# Altium footprint library SparkFun-Connectors.PCBLIB: 344 footprints (part 18 of 22)
Each footprint in its own frame and in the unit in brackets; x right, y up, seen from the top. Pads: shape width x height; smd on the part's side, far side on the other; paste and mask are expansions set on the pad; w line width, h text height; cw(c..) or ccw(c..) is an arc to the next point about the centre after c.
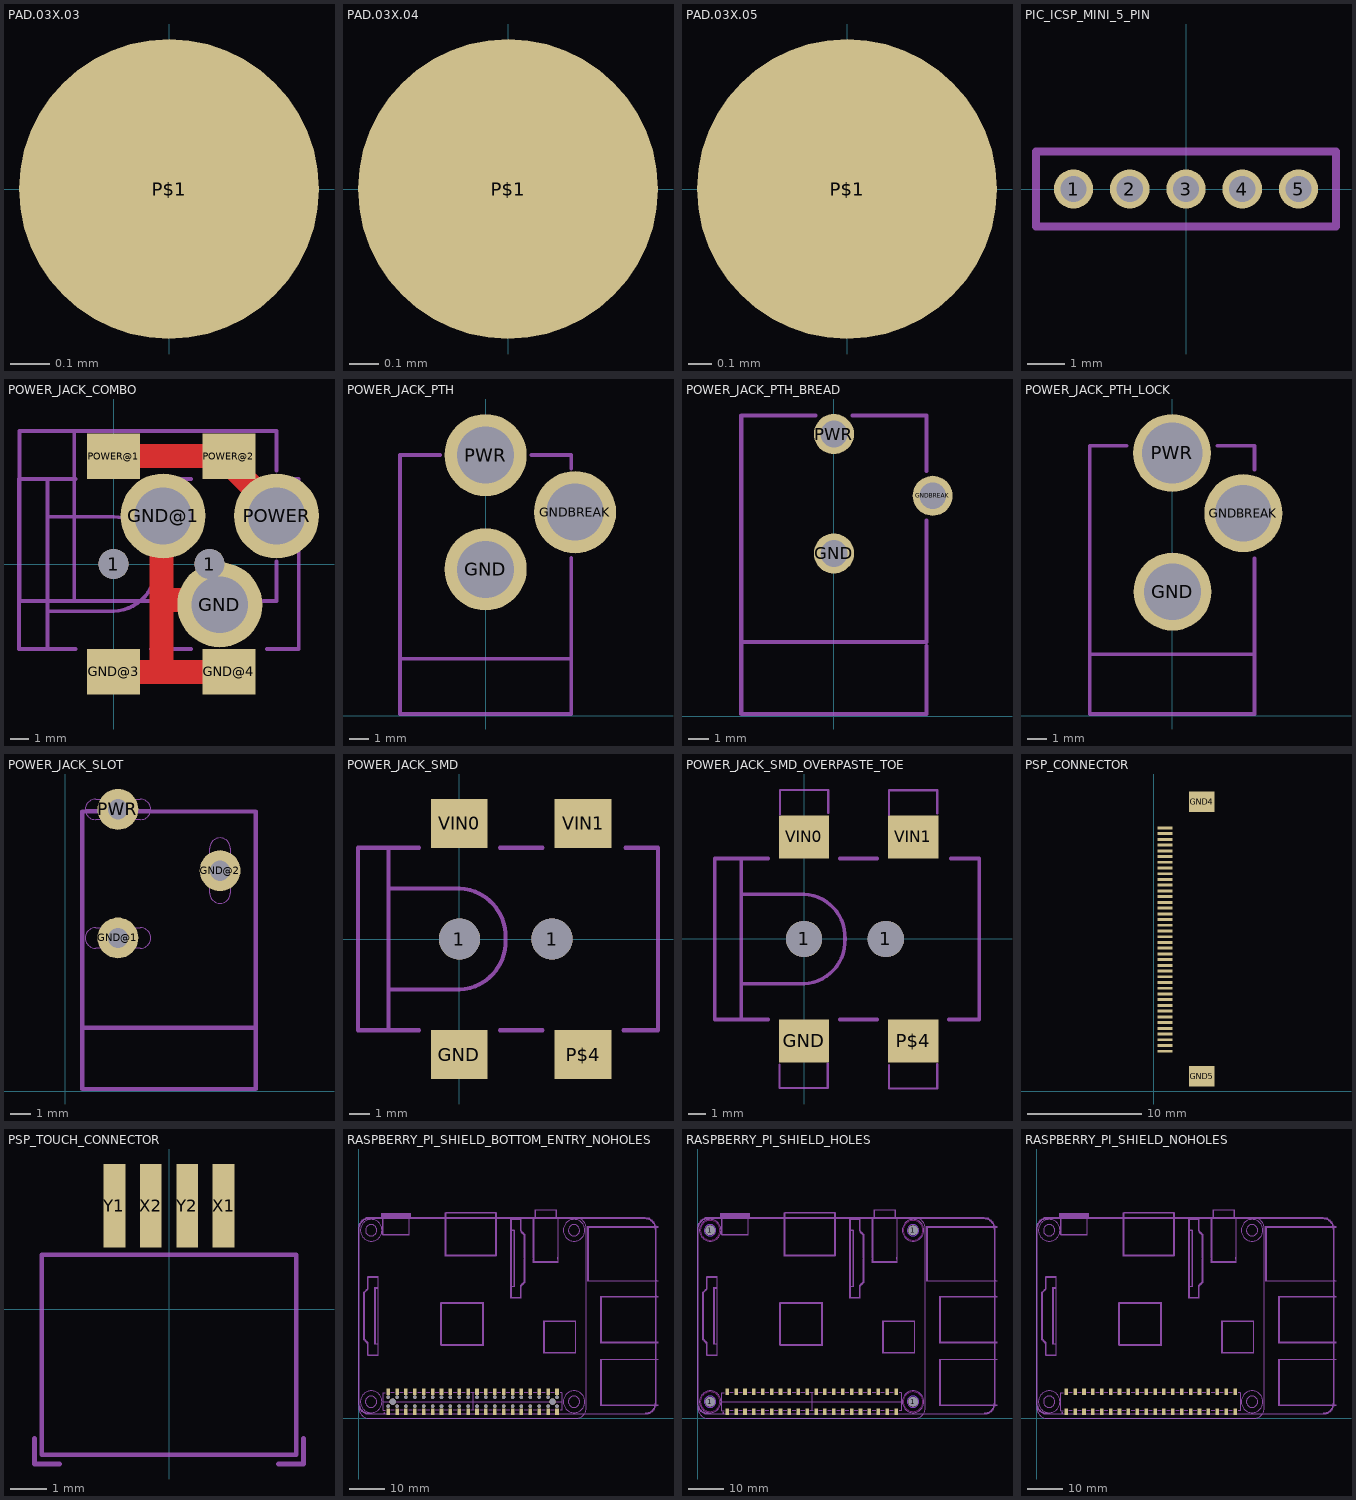
[diagram p17: the footprints below, top view; thin cyan lines are the x and y axes]

## PAD.03X.03 [mil]
pads (1):
  rrect100% 30x30 smd paste+0: P$1(0,0)

## PAD.03X.04 [mil]
pads (1):
  rrect100% 40x40 smd paste+0: P$1(0,0)

## PAD.03X.05 [mil]
pads (1):
  rrect100% 50x50 smd paste+0: P$1(0,0)

## PIC_ICSP_MINI_5_PIN [mm]
pads (5):
  round 1.05 / inner round 1.524 / far side round 1.05 hole 0.7: 1(-3,0) 2(-1.5,0) 3(0,0) 4(1.5,0) 5(3,0)
Mechanical 8:
  lines w0.203: -4,-1 -4,1 4,1 4,-1 -4,-1
Mechanical 22:
  lines w0.203: -3.6,1 -2.4,1
Mechanical 23:
  lines w0.203: -3.594,1 -2.394,1

## POWER_JACK_COMBO [mil]
pads (9):
  round 62.99 hole 62.99 unplated: 1(0,0) 1(200,0)
  round 177 / inner round 60 / far side round 177 hole 118: GND(221.26,-85.04) GND@1(103.15,100) POWER(339.37,100)
  rect 110.24x94.49 smd: GND@3(0,-224.41) GND@4(240.16,-224.41) POWER@1(0,224.41) POWER@2(240.16,224.41)
Top Layer:
  lines w50: 0,-225 100,-225 ; 0,225 250,225 250,200 350,100 ; 100,100 100,-75 ; 225,-75 100,-75 ; 250,-225 100,-225 ; 100,-225 100,-75
Mechanical 8:
  lines w8: -78.74,-177.17 -137.8,-177.17 ; -78.74,177.17 -137.8,177.17 ; 78.74,-177.17 161.42,-177.17 ; 78.74,177.17 161.42,177.17 ; 126.77,-77.17 -81.89,-77.17 ; 311.81,-77.17 339.37,-77.17 339.37,5.51 ; 318.9,-177.17 385.83,-177.17 385.83,177.17 322.83,177.17 ; 339.37,194.49 339.37,277.17 -81.89,277.17 ; -137.8,-177.17 -196.85,-177.17 -196.85,177.17 -137.8,177.17 ; -137.8,-177.17 -137.8,-98.43 ; -137.8,-98.43 -137.8,98.43 ; -137.8,-98.43 0,-98.43 ccw(c-4.21,-4.21) 90,0 ccw(c-4.21,4.21) 0,98.43 -137.8,98.43 ; -137.8,98.43 -137.8,177.17 ; -81.89,-77.17 -196.06,-77.17 -196.06,277.17 -81.89,277.17 ; -81.89,-77.17 -81.89,277.17

## POWER_JACK_PTH [mil]
pads (3):
  round 170 / inner round 60 / far side round 170 hole 118: GND(0,303.15) GNDBREAK(185.04,421.26) PWR(0,539.37)
Mechanical 8:
  lines w8: -177.17,118.11 -177.17,3.94 177.17,3.94 177.17,118.11
Mechanical 22:
  lines w8: -94.49,539.37 -177.17,539.37 -177.17,118.11 177.17,118.11 177.17,326.77 ; 94.49,539.37 177.17,539.37 177.17,511.81

## POWER_JACK_PTH_BREAD [mm]
pads (3):
  round 1.95 / inner round 1.524 / far side round 1.95 hole 1.3: GND(0,7.9) GNDBREAK(4.8,10.7) PWR(0,13.7)
Mechanical 8:
  lines w0.203: -4.5,3.6 -4.5,0.1 4.5,0.1 4.5,3.4
Mechanical 22:
  lines w0.203: -0.9,14.6 -4.5,14.6 -4.5,3.6 4.5,3.6 4.5,9.5 ; 0.9,14.6 4.5,14.6 4.5,11.9

## POWER_JACK_PTH_LOCK [mil]
pads (3):
  round 162 / inner round 60 / far side round 162 hole 118: GND(1,258.15) GNDBREAK(148.09,421.26)
  round 162 / inner round 60 / far side round 162 hole 125.98: PWR(0,546.37)
Mechanical 8:
  region: 58,528 -57,528 -57,546 58,546
  region: 48,291 -48,291 -48,302 48,302
  region: 187,469 187,373 176,373 176,469
  lines w8: -171.17,129.11 -171.17,3.94 171.17,3.94 171.17,129.11
Mechanical 22:
  lines w8: -94.49,561.37 -171.17,561.37 -171.17,128.11 171.17,128.11 171.17,326.77 ; 94.49,561.37 171.17,561.37 171.17,511.81

## POWER_JACK_SLOT [mm]
pads (3):
  round 2 / inner round 1.524 / far side round 2 hole 1: GND@1(2.58,7.5) GND@2(7.58,10.8) PWR(2.58,13.8)
Mechanical 8:
  lines w0.203: 0.83,3.1 0.83,0.1 9.33,0.1 9.33,3.1 ; 0.83,6.55 0.83,8.4 ; 0.83,12.7 0.83,13.7 4.83,13.7
Mechanical 22:
  lines w0.203: 0.83,6.51 0.83,3.1 9.33,3.1 ; 0.83,8.4 0.83,12.7 ; 4.83,13.7 9.33,13.7 9.33,3.1 ; 9.28,3.1 9.33,3.1
Mechanical 32:
  lines w0: 0.98,13.8 4.18,13.8 ; 0.98,13.8 cw(c1.48,13.8) 1.48,14.3 3.68,14.3 cw(c3.68,13.8) 4.18,13.8 ; 0.98,13.8 ccw(c1.48,13.8) 1.48,13.3 3.68,13.3 ccw(c3.68,13.8) 4.18,13.8 ; 0.98,7.5 cw(c1.48,7.5) 1.48,8 3.68,8 cw(c3.68,7.5) 4.18,7.5 cw(c3.68,7.5) 3.68,7 1.48,7 cw(c1.48,7.5) 0.98,7.5 ; 7.08,9.7 ccw(c7.58,9.7) 7.58,9.2 ccw(c7.58,9.7) 8.08,9.7 8.08,11.9 ccw(c7.58,11.9) 7.58,12.4 ccw(c7.58,11.9) 7.08,11.9 7.08,9.7

## POWER_JACK_SMD [mil]
pads (6):
  round 80 hole 80 unplated: 1(0,0) 1(180,0)
  rect 110.24x94.49 smd: GND(0,-224.41) P$4(240.16,-224.41) VIN0(0,224.41) VIN1(240.16,224.41)
Mechanical 8:
  lines w8: -137.8,-177.17 -196.85,-177.17 -196.85,177.17 -137.8,177.17
Mechanical 22:
  lines w8: -78.74,-177.17 -137.8,-177.17 -137.8,-98.43 ; -78.74,177.17 -137.8,177.17 -137.8,98.43 ; 78.74,-177.17 161.42,-177.17 ; 78.74,177.17 161.42,177.17 ; 318.9,-177.17 385.83,-177.17 385.83,177.17 322.83,177.17 ; -137.8,-98.43 -137.8,98.43 ; -137.8,-98.43 0,-98.43 ccw(c-4.21,-4.21) 90,0 ccw(c-4.21,4.21) 0,98.43 -137.8,98.43

## POWER_JACK_SMD_OVERPASTE_TOE [mil]
pads (6):
  round 80 hole 80 unplated: 1(0,0) 1(180,0)
  rect 110.24x94.49 smd: GND(0,-224.41) P$4(240.16,-224.41) VIN0(0,224.41) VIN1(240.16,224.41)
Top Paste:
  region: -55.1,-330 -55.1,-271.5 55.1,-271.5 55.1,-330
  region: 185.1,-330.1 185.1,-271.6 295.3,-271.6 295.3,-330.1
  region: 295.3,330 295.3,271.5 185.1,271.5 185.1,330
  region: 55.1,330 55.1,271.5 -55.1,271.5 -55.1,330
Mechanical 8:
  lines w5: -54,-277 -54,-328 52,-328 52,-274 ; -53,274 -53,328 53,328 53,277 ; 187,-278 187,-329 293,-329 293,-275 ; 187,273 187,327 293,327 293,276
  lines w8: -137.8,-177.17 -196.85,-177.17 -196.85,177.17 -137.8,177.17
Mechanical 22:
  lines w8: -78.74,-177.17 -137.8,-177.17 -137.8,-98.43 ; -78.74,177.17 -137.8,177.17 -137.8,98.43 ; 78.74,-177.17 161.42,-177.17 ; 78.74,177.17 161.42,177.17 ; 318.9,-177.17 385.83,-177.17 385.83,177.17 322.83,177.17 ; -137.8,-98.43 -137.8,98.43 ; -137.8,-98.43 0,-98.43 ccw(c-4.21,-4.21) 90,0 ccw(c-4.21,4.21) 0,98.43 -137.8,98.43

## PSP_CONNECTOR [mm]
pads (43):
  rect 0.001x0.001 smd far side: .(4.4,25.3)
  rect 1.27x0.254 smd: AVDD(1,6) AVDD2(1,5.5) B0(1,13) B1(1,12.5) B2(1,12) B3(1,11.5) B4(1,11) B5(1,10.5) B6(1,10) B7(1,9.5) CK(1,8.5) DISP(1,8) G0(1,17) G1(1,16.5) G2(1,16) G3(1,15.5) G4(1,15) G5(1,14.5) G6(1,14) G7(1,13.5) GND(1,23) GND2(1,22.5) GND3(1,9) HSYNC(1,7.5) NC(1,6.5) NC2(1,5) R0(1,21) R1(1,20.5) R2(1,20) R3(1,19.5) R4(1,19) R5(1,18.5) R6(1,18) R7(1,17.5) TEST1(1,4.5) TEST2(1,4) TEST3(1,3.5) VCC(1,22) VCC2(1,21.5) VSYNC(1,7)
  rect 2.2x1.8 smd: GND4(4.2,25.3) GND5(4.2,1.3)

## PSP_TOUCH_CONNECTOR [mil]
pads (4):
  rect 23.62x90.55 smd: X1(59.06,112.2) X2(-19.69,112.2) Y1(-59.06,112.2) Y2(19.69,112.2)
Mechanical 8:
  lines w5: -137.8,-157.48 137.8,-157.48 137.8,59.06 -137.8,59.06 -137.8,-157.48
Mechanical 22:
  lines w5: -145.67,-139.76 -145.67,-167.32 -118.11,-167.32 ; 118.11,-167.32 145.67,-167.32 145.67,-139.76

## RASPBERRY_PI_SHIELD_BOTTOM_ENTRY_NOHOLES [mil]
pads (82):
  round 40.16 hole 40.16 unplated: 1(329.53,138.98) 1(329.53,238.98) 1(429.53,138.98) 1(429.53,238.98) 1(529.53,138.98) 1(529.53,238.98) 1(629.53,138.98) 1(629.53,238.98) 1(729.53,138.98) 1(729.53,238.98) 1(829.53,138.98) 1(829.53,238.98) 1(929.53,138.98) 1(929.53,238.98) 1(1029.53,138.98) 1(1029.53,238.98) 1(1129.53,138.98) 1(1129.53,238.98) 1(1229.53,138.98) 1(1229.53,238.98) 1(1329.53,138.98) 1(1329.53,238.98) 1(1429.53,138.98) 1(1429.53,238.98) 1(1529.53,138.98) 1(1529.53,238.98) 1(1629.53,138.98) 1(1629.53,238.98) 1(1729.53,138.98) 1(1729.53,238.98) 1(1829.53,138.98) 1(1829.53,238.98) 1(1929.53,138.98) 1(1929.53,238.98) 1(2029.53,138.98) 1(2029.53,238.98) 1(2129.53,138.98) 1(2129.53,238.98) 1(2229.53,138.98) 1(2229.53,238.98)
  rect 40.16x73.62 smd: 1(329.53,301.77) 2(329.53,76.18) 3(429.53,301.77) 4(429.53,76.18) 5(529.53,301.77) 6(529.53,76.18) 7(629.53,301.77) 8(629.53,76.18) 9(729.53,301.77) 10(729.53,76.18) 11(829.53,301.77) 12(829.53,76.18) 13(929.53,301.77) 14(929.53,76.18) 15(1029.53,301.77) 16(1029.53,76.18) 17(1129.53,301.77) 18(1129.53,76.18) 19(1229.53,301.77) 20(1229.53,76.18) 21(1329.53,301.77) 22(1329.53,76.18) 23(1429.53,301.77) 24(1429.53,76.18) 25(1529.53,301.77) 26(1529.53,76.18) 27(1629.53,301.77) 28(1629.53,76.18) 29(1729.53,301.77) 30(1729.53,76.18) 31(1829.53,301.77) 32(1829.53,76.18) 33(1929.53,301.77) 34(1929.53,76.18) 35(2029.53,301.77) 36(2029.53,76.18) 37(2129.53,301.77) 38(2129.53,76.18) 39(2229.53,301.77) 40(2229.53,76.18)
  round 70.87 hole 70.87 unplated: 1(379.53,188.98) 1(2179.53,188.98)
Mechanical 22:
  circle w10: c285.43,57.88 r4.4
  lines w8: 294.53,90.55 275.59,90.55 275.59,287.4 294.53,287.4 ; 359.84,90.55 399.21,90.55 ; 359.84,287.4 399.21,287.4 ; 459.84,90.55 499.21,90.55 ; 459.84,287.4 499.21,287.4 ; 559.84,90.55 599.21,90.55 ; 559.84,287.4 599.21,287.4 ; 659.84,90.55 699.21,90.55 ; 659.84,287.4 699.21,287.4 ; 759.84,90.55 799.21,90.55 ; 759.84,287.4 799.21,287.4 ; 859.84,90.55 899.21,90.55 ; 859.84,287.4 899.21,287.4 ; 959.84,90.55 999.21,90.55 ; 959.84,287.4 999.21,287.4 ; 1059.84,90.55 1099.21,90.55 ; 1059.84,287.4 1099.21,287.4 ; 1159.84,90.55 1199.21,90.55 ; 1159.84,287.4 1199.21,287.4 ; 1259.84,90.55 1299.21,90.55 ; 1259.84,287.4 1299.21,287.4 ; 1359.84,90.55 1399.21,90.55 ; 1359.84,287.4 1399.21,287.4 ; 1459.84,90.55 1499.21,90.55 ; 1459.84,287.4 1499.21,287.4 ; 1559.84,90.55 1599.21,90.55 ; 1559.84,287.4 1599.21,287.4 ; 1659.84,90.55 1699.21,90.55 ; 1659.84,287.4 1699.21,287.4 ; 1759.84,90.55 1799.21,90.55 ; 1759.84,287.4 1799.21,287.4 ; 1859.84,90.55 1899.21,90.55 ; 1859.84,287.4 1899.21,287.4 ; 1959.84,90.55 1999.21,90.55 ; 1959.84,287.4 1999.21,287.4 ; 2059.84,90.55 2099.21,90.55 ; 2059.84,287.4 2099.21,287.4 ; 2159.84,90.55 2199.21,90.55 ; 2159.84,287.4 2199.21,287.4 ; 2264.53,90.55 2283.46,90.55 2283.46,287.4 2264.53,287.4
Mech35:
  drawing of 2050 lines, arcs and shapes, not listed

## RASPBERRY_PI_SHIELD_HOLES [mil]
pads (44):
  round 108.27 hole 108.27 unplated: 1(138.27,188) 1(138.27,2117.13) 1(2421.73,188) 1(2421.73,2117.13)
  rect 40.16x73.62 smd: 1(330,302.62) 2(330,75.94) 3(430,302.62) 4(430,75.94) 5(530,302.62) 6(530,75.94) 7(630,302.62) 8(630,75.94) 9(730,302.62) 10(730,75.94) 11(830,302.62) 12(830,75.94) 13(930,302.62) 14(930,75.94) 15(1030,302.62) 16(1030,75.94) 17(1130,302.62) 18(1130,75.94) 19(1230,302.62) 20(1230,75.94) 21(1330,302.62) 22(1330,75.94) 23(1430,302.62) 24(1430,75.94) 25(1530,302.62) 26(1530,75.94) 27(1630,302.62) 28(1630,75.94) 29(1730,302.62) 30(1730,75.94) 31(1830,302.62) 32(1830,75.94) 33(1930,302.62) 34(1930,75.94) 35(2030,302.62) 36(2030,75.94) 37(2130,302.62) 38(2130,75.94) 39(2230,302.62) 40(2230,75.94)
Top Layer keep-out:
  circle w8: c138.27,188 r63.53
  circle w5: c138.27,188 r110
  circle w5: c2421.73,2117.13 r110
  circle w8: c2421.73,2117.13 r63.53
  circle w5: c138.27,2117.13 r110
  circle w8: c138.27,2117.13 r63.53
  circle w5: c2421.73,188 r110
  circle w8: c2421.73,188 r63.53
Bottom Layer keep-out:
  circle w8: c137.32,188 r63.53
  circle w8: c2420.79,2117.13 r63.53
  circle w8: c137.32,2117.13 r63.53
  circle w8: c2420.79,188 r63.53
Mechanical 22:
  circle w10: c285.91,62.02 r4.4
  lines w8: 295,88 270,88 270,288 295,288 ; 360,88 400,88 ; 360,288 400,288 ; 460,88 500,88 ; 460,288 500,288 ; 560,88 600,88 ; 560,288 600,288 ; 660,88 700,88 ; 660,288 700,288 ; 760,88 800,88 ; 760,288 800,288 ; 860,88 900,88 ; 860,288 900,288 ; 960,88 1000,88 ; 960,288 1000,288 ; 1060,88 1100,88 ; 1060,288 1100,288 ; 1160,88 1200,88 ; 1160,288 1200,288 ; 1260,88 1300,88 ; 1260,288 1300,288 ; 1360,88 1400,88 ; 1360,288 1400,288 ; 1460,88 1500,88 ; 1460,288 1500,288 ; 1560,88 1600,88 ; 1560,288 1600,288 ; 1660,88 1700,88 ; 1660,288 1700,288 ; 1760,88 1800,88 ; 1760,288 1800,288 ; 1860,88 1900,88 ; 1860,288 1900,288 ; 1960,88 2000,88 ; 1960,288 2000,288 ; 2060,88 2100,88 ; 2060,288 2100,288 ; 2160,88 2200,88 ; 2160,288 2200,288 ; 2265,88 2290,88 2290,288 2265,288
Mech35:
  drawing of 2046 lines, arcs and shapes, not listed

## RASPBERRY_PI_SHIELD_NOHOLES [mil]
pads (40):
  rect 40.16x73.62 smd: 1(330,302.62) 2(330,75.94) 3(430,302.62) 4(430,75.94) 5(530,302.62) 6(530,75.94) 7(630,302.62) 8(630,75.94) 9(730,302.62) 10(730,75.94) 11(830,302.62) 12(830,75.94) 13(930,302.62) 14(930,75.94) 15(1030,302.62) 16(1030,75.94) 17(1130,302.62) 18(1130,75.94) 19(1230,302.62) 20(1230,75.94) 21(1330,302.62) 22(1330,75.94) 23(1430,302.62) 24(1430,75.94) 25(1530,302.62) 26(1530,75.94) 27(1630,302.62) 28(1630,75.94) 29(1730,302.62) 30(1730,75.94) 31(1830,302.62) 32(1830,75.94) 33(1930,302.62) 34(1930,75.94) 35(2030,302.62) 36(2030,75.94) 37(2130,302.62) 38(2130,75.94) 39(2230,302.62) 40(2230,75.94)
Mechanical 22:
  circle w10: c285.91,62.02 r4.4
  lines w8: 295,88 270,88 270,288 295,288 ; 360,88 400,88 ; 360,288 400,288 ; 460,88 500,88 ; 460,288 500,288 ; 560,88 600,88 ; 560,288 600,288 ; 660,88 700,88 ; 660,288 700,288 ; 760,88 800,88 ; 760,288 800,288 ; 860,88 900,88 ; 860,288 900,288 ; 960,88 1000,88 ; 960,288 1000,288 ; 1060,88 1100,88 ; 1060,288 1100,288 ; 1160,88 1200,88 ; 1160,288 1200,288 ; 1260,88 1300,88 ; 1260,288 1300,288 ; 1360,88 1400,88 ; 1360,288 1400,288 ; 1460,88 1500,88 ; 1460,288 1500,288 ; 1560,88 1600,88 ; 1560,288 1600,288 ; 1660,88 1700,88 ; 1660,288 1700,288 ; 1760,88 1800,88 ; 1760,288 1800,288 ; 1860,88 1900,88 ; 1860,288 1900,288 ; 1960,88 2000,88 ; 1960,288 2000,288 ; 2060,88 2100,88 ; 2060,288 2100,288 ; 2160,88 2200,88 ; 2160,288 2200,288 ; 2265,88 2290,88 2290,288 2265,288
Mech35:
  drawing of 2048 lines, arcs and shapes, not listed